# Altium schematic symbol library pren-et_DC.SchLib: 1 symbol
Pins are listed as number, name and electrical type; pins without a type are passive.

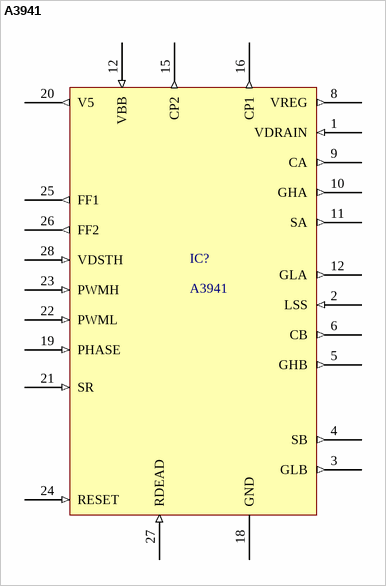
[diagram p0: symbol A3941]

## A3941
designator IC?
A3941 SOIC IC
footprint A3941 (A3941 SOIC IC)
pins: 1 VDRAIN (in) "High-side common drain", 2 LSS (in) "Low-side common source", 3 GLB (out) "Low-side gate drive B", 4 SB (out) "Load connection B", 5 GHB (out) "High-side gate drive B", 6 CB (out) "Bootstrap capacitor B", 7 VREG (out) hidden to VREG "Regulated 13 V", 8 VREG (out) "Regulated 13 V", 9 CA (out) "Bootstrap capacitor A", 10 GHA (out) "High-side gate drive A", 11 SA (out) "Load connection A", 12 VBB (in) "Main supply", 12 GLA (out) "Low-side gate drive A", 13 VBB (in) hidden to VBB "Main supply", 15 CP2 (out) "Pump capacitor", 16 CP1 (out) "Pump capacitor", 17 GND (power) hidden to GND "Ground", 18 GND (power) "Ground", 19 PHASE (in) "Phase control input", 20 V5 (out) "5 V regulator", 21 SR (in) "SR control input", 22 PWML (in) "Low-side PWM control input", 23 PWMH (in) "High-side PWM control input", 24 RESET (in) "Reset input", 25 FF1 (out) "Fault Flag 1 output", 26 FF2 (out) "Fault Flag 2 output", 27 RDEAD (in) "Dead time setting input", 28 VDSTH (in) "VDS threshold level Input", 29 GND (power) hidden to GND "Ground"